# Altium footprint library MyPCB_Library.PcbLib: 23 footprints (part 2 of 2)
Each footprint in its own frame and in the unit in brackets; x right, y up, seen from the top. Pads: shape width x height; smd on the part's side, far side on the other; paste and mask are expansions set on the pad; w line width, h text height; cw(c..) or ccw(c..) is an arc to the next point about the centre after c.
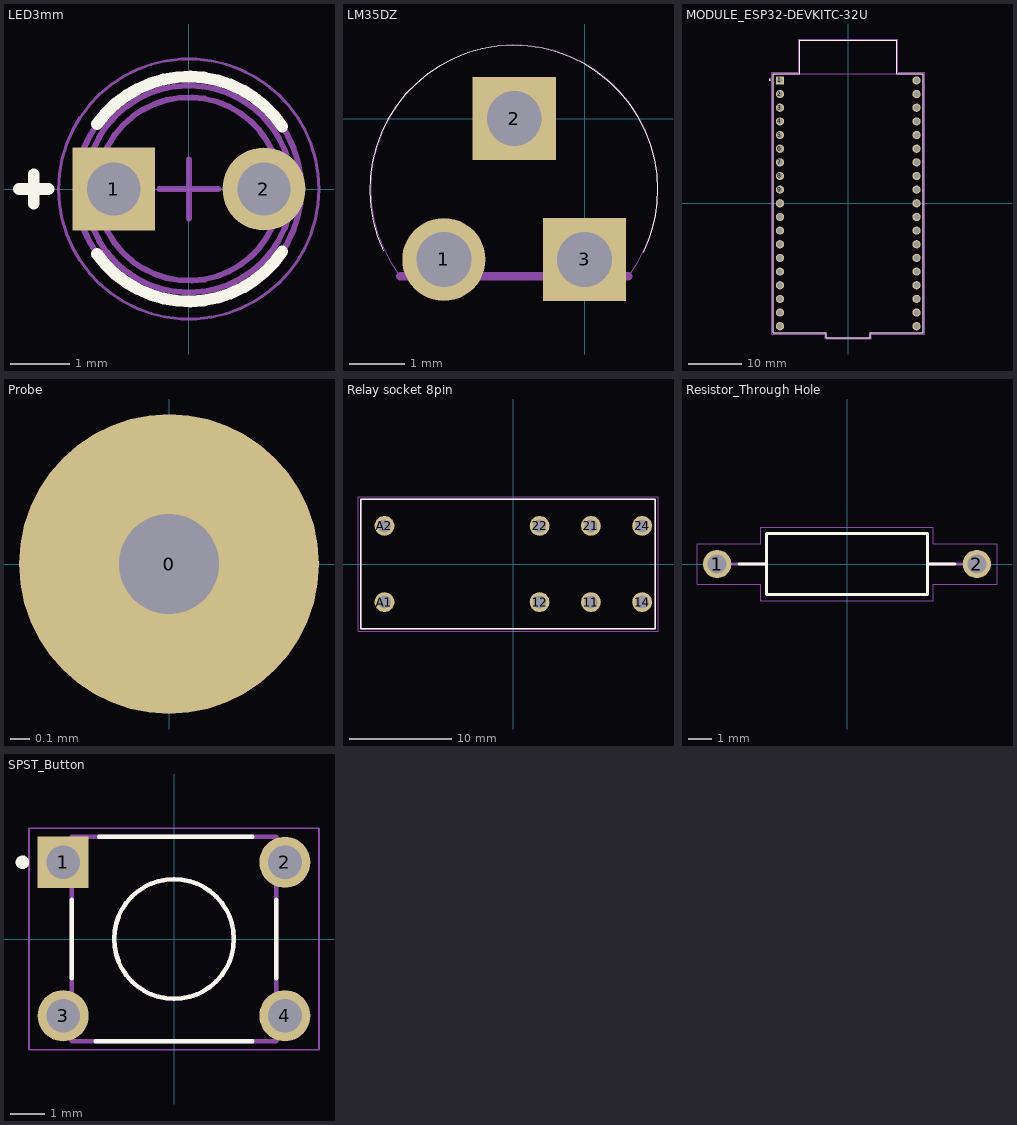
[diagram p1: the footprints below, top view; thin cyan lines are the x and y axes]

## LED3mm [mm] "THD, 2-Leads, Dia 3.8mm, Pitch 2.54mm"
height 6.5
pads (2):
  rect 1.4x1.4 hole 0.9: 1(-1.27,0)
  round 1.4 hole 0.9: 2(1.27,0)
Top Overlay:
  lines w0.2: -2.87,0 -2.37,0 ; -2.62,-0.25 -2.62,0.25 ; -1.549,-1.1 ccw(c0,0) 1.58,-1.056 ; -1.549,1.1 cw(c0,0) 1.58,1.056
Mechanical 13:
  circle w0.1: c0,0 r1.75
  circle w0.1: c0,0 r1.55
  circle w0.1: c0,0 r1.9
Mechanical 15:
  circle w0.05: c0,0 r2.2
  lines w0.1: -0.5,0 0.5,0 ; 0,-0.5 0,0.5
3D body: height 6.5, standoff 1, extent -1.549,-1.549 1.549,1.549
3D body: height 1.7, standoff 1, extent -1.899,-1.899 1.899,1.899
3D body: height 2.1, standoff 1, extent -1.75,-1.75 1.749,1.749

## LM35DZ [mil]
pads (3):
  round 59 hole 39: 1(-100,-100)
  rect 59x59 hole 39: 2(-50,0) 3(0,-100)
Top Overlay:
  lines w0: -143.16,-93.65 cw(c-50.38,-50.38) 52,-50.38 ; 42.02,-94.95 ccw(c-54.49,-49.95) 52,-49.95
Mechanical 13:
  lines w0: -131.54,-111.29 cw(c-50,-49.85) 31.54,-111.29
  lines w6: -131,-112 31,-112
3D body "LM35DZ_LFT4.STEP": height 310.24, standoff -400, extent -145.36,-150 44.6,-5.12

## MODULE_ESP32-DEVKITC-32U [mm]
pads (38):
  rect 1.53x1.53 / inner round 1.53 / far side rect 1.53x1.53 hole 1.02 mask+0.05: 1(-12.7,22.85)
  round 1.53 hole 1.02 mask+0.05: 2(-12.7,20.31) 3(-12.7,17.77) 4(-12.7,15.23) 5(-12.7,12.69) 6(-12.7,10.15) 7(-12.7,7.61) 8(-12.7,5.07) 9(-12.7,2.53) 10(-12.7,-0.01) 11(-12.7,-2.55) 12(-12.7,-5.09) 13(-12.7,-7.63) 14(-12.7,-10.17) 15(-12.7,-12.71) 16(-12.7,-15.25) 17(-12.7,-17.79) 18(-12.7,-20.33) 19(-12.7,-22.87) 20(12.7,-22.87) 21(12.7,-20.33) 22(12.7,-17.79) 23(12.7,-15.25) 24(12.7,-12.71) 25(12.7,-10.17) 26(12.7,-7.63) 27(12.7,-5.09) 28(12.7,-2.55) 29(12.7,-0.01) 30(12.7,2.53) 31(12.7,5.07) 32(12.7,7.61) 33(12.7,10.15) 34(12.7,12.69) 35(12.7,15.23) 36(12.7,17.77) 37(12.7,20.31) 38(12.7,22.85)
Top Overlay:
  circle w0.2: c-14.57,22.97 r0.1
  lines w0.127: -13.95,-24.1 -4.07,-24.1 -4.07,-25 4.06,-25 4.06,-24.1 13.95,-24.1 13.95,24.1 9,24.1 9,30.3 -9,30.3 -9,24.1 -13.95,24.1 -13.95,-24.1
Mechanical 13:
  circle w0.2: c-14.57,22.97 r0.1
  lines w0.127: -9,24.1 -9,30.3 9,30.3 9,24.1 ; -9,24.1 -13.95,24.1 -13.95,-24.1 -4.07,-24.1 -4.07,-25 4.06,-25 4.06,-24.1 13.95,-24.1 13.95,24.1 9,24.1 ; -9,24.1 9,24.1
Mechanical 15:
  lines w0.05: -14.2,-24.38 -4.32,-24.38 -4.32,-25.25 4.31,-25.25 4.31,-24.38 14.2,-24.38 14.2,24.38 9.25,24.38 9.25,30.55 -9.25,30.55 -9.25,24.38 -14.2,24.38 -14.2,-24.38
3D body "step_temp.STEP": height 7.95, standoff -5.5, extent -13.95,-24.62 13.95,30.3

## Probe [mil]
pads (1):
  round 60 hole 20: 0(0,0)

## Relay socket 8pin [mm]
pads (8):
  round 1.95 hole 1.3: 11(7.63,-3.75) 12(2.59,-3.75) 14(12.67,-3.75) 21(7.63,3.75) 22(2.59,3.75) 24(12.67,3.75) A1(-12.67,-3.75) A2(-12.67,3.75)
Top Overlay:
  lines w0.127: -15.02,6.35 -15.02,-6.35 13.98,-6.35 13.98,6.35 -15.015,6.35
Mechanical 13:
  lines w0.127: -15.02,-6.35 13.98,-6.35 13.98,6.35 -15.02,6.35 -15.02,-6.35
Mechanical 15:
  lines w0.05: -15.27,-6.6 14.23,-6.6 14.23,6.6 -15.27,6.6 -15.27,-6.6
3D body "c-1860991-1-c-3d.stp": height 8.9, standoff -4.75, extent -15.475,-6.198 15.475,6.452

## Resistor_Through Hole [mm]
pads (2):
  round 1.2 hole 0.8: 1(-5.5,0) 2(5.5,0)
Top Overlay:
  lines w0.127: -4.58,0 -3.4,0 ; 4.58,0 3.4,0 ; -3.4,0 -3.4,-1.3 3.4,-1.3 3.4,0 ; -3.4,0 -3.4,1.3 3.4,1.3 3.4,0
Mechanical 13:
  lines w0.127: -4.9,0 -3.4,0 ; 4.9,0 3.4,0 ; -3.4,0 -3.4,-1.3 3.4,-1.3 3.4,0 ; -3.4,0 -3.4,1.3 3.4,1.3 3.4,0
Mechanical 15:
  lines w0.05: -6.35,-0.85 -6.35,0.85 -3.65,0.85 -3.65,1.55 3.65,1.55 3.65,0.85 6.35,0.85 6.35,-0.85 3.65,-0.85 3.65,-1.55 -3.65,-1.55 -3.65,-0.85 -6.35,-0.85
3D body "MFR-25FTE52-1R.STEP": height 2.6, standoff -25.53, extent -5.842,-1.291 5.708,1.291

## SPST_Button [mm]
pads (4):
  rect 1.498x1.498 / inner round 1.498 / far side rect 1.498x1.498 hole 0.99: 1(-3.25,2.25)
  round 1.498 hole 0.99: 2(3.25,2.25) 3(-3.25,-2.25) 4(3.25,-2.25)
Top Overlay:
  circle w0.2: c-4.445,2.25 r0.1
  circle w0.127: c0,0 r1.755
  lines w0.127: -2.995,-1.15 -2.995,1.15 ; -2.3,-2.995 2.3,-2.995 ; -2.2,2.995 2.3,2.995 ; 3,-1.15 3,1.15
Mechanical 13:
  circle w0.127: c0,0 r1.755
  lines w0.127: -2.995,-2.995 2.995,-2.995 2.995,2.995 -2.995,2.995 -2.995,-2.995
Mechanical 15:
  lines w0.05: -4.25,-3.25 4.25,-3.25 4.25,3.25 -4.25,3.25 -4.25,-3.25
3D body "step_temp.STEP": height 5.01, standoff -3.51, extent -3.9,-2.995 3.898,2.995